# Altium footprint library Resistor_smd_M1005_I0402.PcbLib: 1 footprints
Each footprint in its own frame and in the unit in brackets; x right, y up, seen from the top. Pads: shape width x height; smd on the part's side, far side on the other; paste and mask are expansions set on the pad; w line width, h text height; cw(c..) or ccw(c..) is an arc to the next point about the centre after c.
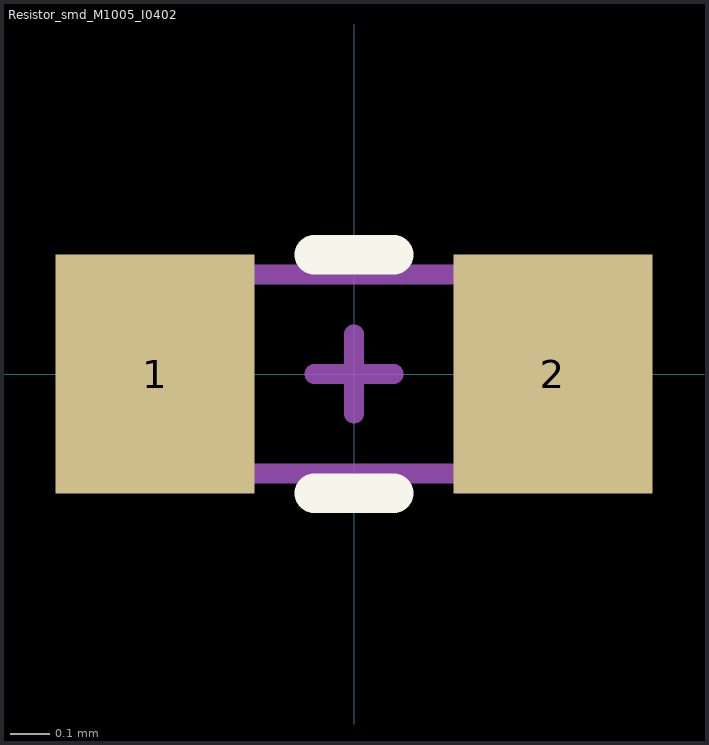
[diagram p0: the footprint, top view; thin cyan lines are the x and y axes]

## Resistor_smd_M1005_I0402 [mm] "Resistor_smd_M1005_I0402"
height 0.35
pads (2):
  rect 0.5x0.6 smd mask+0.05: 1(-0.5,0) 2(0.5,0)
Top Overlay:
  lines w0.1: -0.1,-0.3 0.1,-0.3 ; -0.1,0.3 0.1,0.3
Top Assembly:
  lines w0.05: -0.5,-0.25 0.5,-0.25 0.5,0.25 -0.5,0.25 -0.5,-0.25
Top Designator:
  text ".Designator" at -1.5,-0.95 h0.8
Top Component Center:
  lines w0.05: -0.1,0 0.1,0 ; 0,-0.1 0,0.1
3D body "Resistor_Smd_M1005_I0402.step": height 0.4, standoff 0, extent -0.5,-0.26 0.5,0.26